# Altium schematic symbol library MiniFrogFC_lib.SchLib: 20 symbols
Pins are listed as number, name and electrical type; pins without a type are passive.

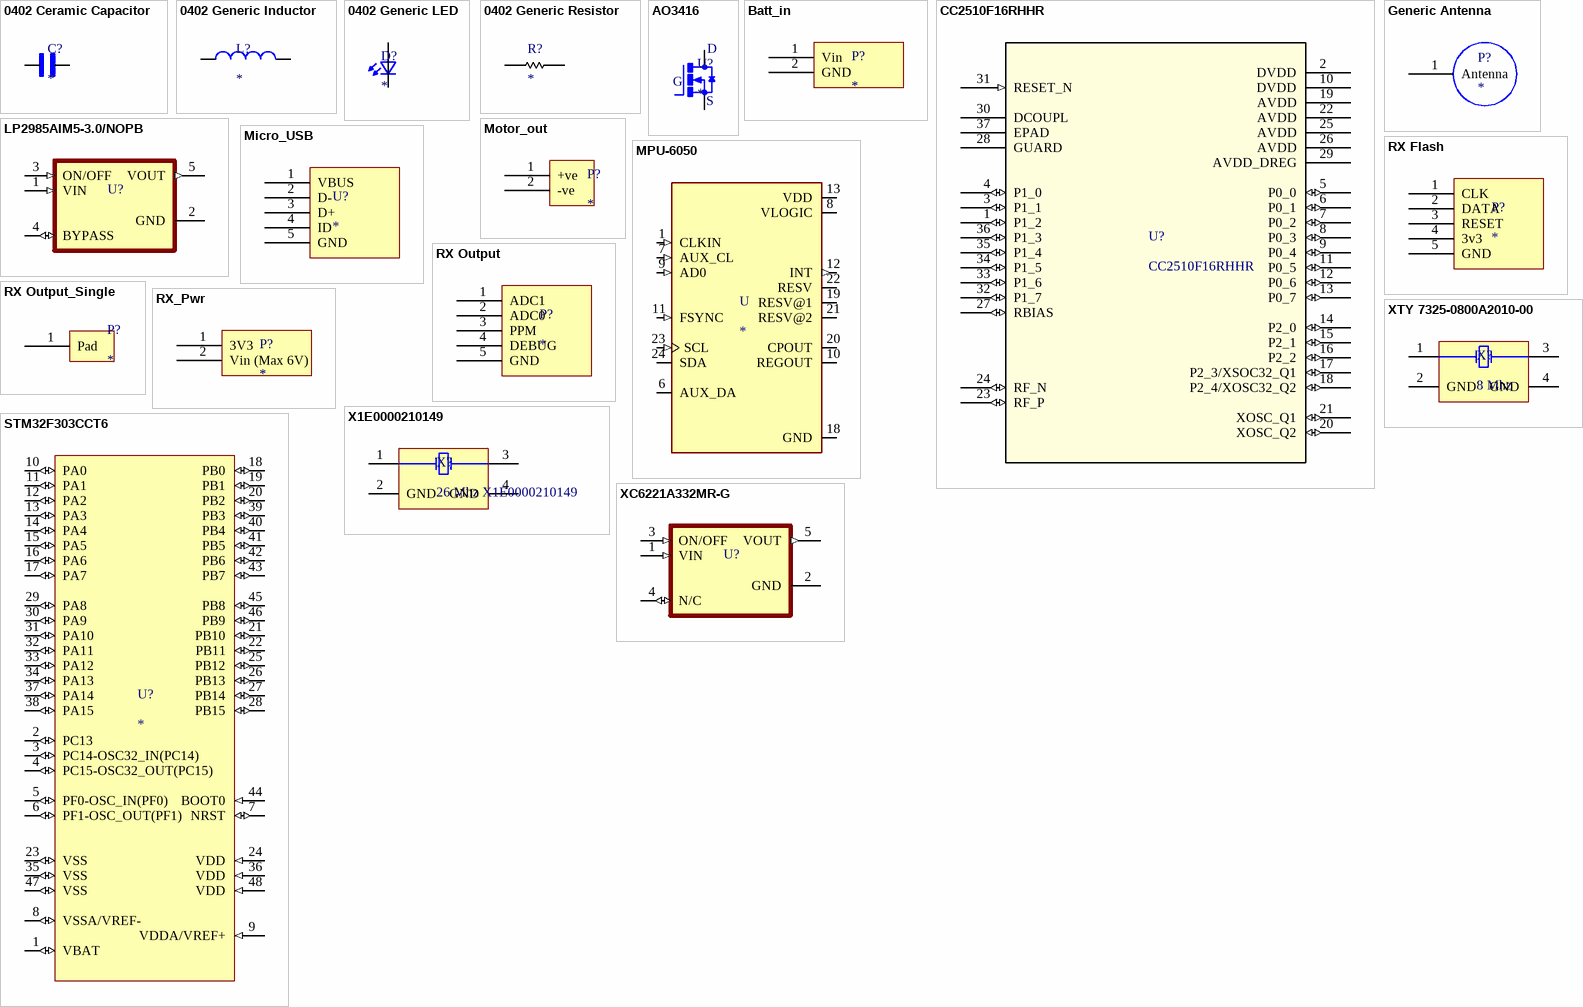
[diagram p0: symbols 0402 Ceramic Capacitor to XTY 7325-0800A2010-00]

## 0402 Ceramic Capacitor
designator C?
Generic 0402 Ceramic Capacitor; MP: AC0402FR-071ML; MF: Yageo; Package: 1005 Yageo; SnapEDA_Link: https://www.snapeda.com/parts/AC0402FR-071ML/Yageo/view-part/940461/?ref=snap; Value: *; Mouser-Purchase-URL: https://snapeda.com/shop?store=Mouser&id=940461; DigiKey-Purchase-URL: https://snapeda.com/shop?store=DigiKey&id=940461
footprint 0402 Capacitor Generic
pins: 1, 2

## 0402 Generic Inductor
designator L?
0402 Generic Inductor; Value: *
footprint 0402 Inductor Generic
pins: 1, 2

## 0402 Generic LED
designator D?
0402 Generic LED; Value: *
footprint 0402 LED Generic
pins: 1 K2, 2 A2

## 0402 Generic Resistor
designator R?
Generic 0402 Resistor
footprint 0402 Resistor Generic
pins: 1, 2

## AO3416
designator U?
N-Channel 20V 6.5A _Ta_ 1.4W _Ta_ Surface Mount SOT-23-3L; MF: Alpha &; MP: AO3416; Digi-Key_Part_Number: 785-1011-1-ND; Package: SOT-23 Alpha &amp; Omega Semiconductor; Value: *; SnapEDA_Link: https://www.snapeda.com/parts/AO3416/Alpha%20%26%20Omega%20Semiconductor%20Inc./view-part/555673/?ref=snap; Digi-Key_Purchase_URL: https://www.digikey.com/product-detail/en/alpha-omega-semiconductor-inc/AO3416/785-1011-1-ND/1855953?utm_source=snapeda&utm_medium=aggregator&utm_campaign=symbol
footprint SOT23-3
pins: 1 G, 2 S, 3 D

## Batt_in
designator P?
footprint 2 Solder Pads
pins: 1 Vin, 2 GND

## CC2510F16RHHR
designator U?
VQFN-36 RF Transceiver ICs; SourceLibrary: TI_2019-05-10; Vendor: Texas Instruments; Manufacturer_Part_Number: CC2510F16RHHR; RefDes: RefDes; Type: DEV
footprint CC2510F32RHHR
pins: 1 P1_2 (io), 2 DVDD, 3 P1_1 (io), 4 P1_0 (io), 5 P0_0 (io), 6 P0_1 (io), 7 P0_2 (io), 8 P0_3 (io), 9 P0_4 (io), 10 DVDD, 11 P0_5 (io), 12 P0_6 (io), 13 P0_7 (io), 14 P2_0 (io), 15 P2_1 (io), 16 P2_2 (io), 17 P2_3/XSOC32_Q1 (io), 18 P2_4/XOSC32_Q2 (io), 19 AVDD, 20 XOSC_Q2 (io), 21 XOSC_Q1 (io), 22 AVDD, 23 RF_P (io), 24 RF_N (io), 25 AVDD, 26 AVDD, 27 RBIAS (io), 28 GUARD, 29 AVDD_DREG, 30 DCOUPL, 31 RESET_N (in), 32 P1_7 (io), 33 P1_6 (io), 34 P1_5 (io), 35 P1_4 (io), 36 P1_3 (io), 37 EPAD

## Generic Antenna
designator P?
footprint Antenna pad
pins: 1 Antenna

## LP2985AIM5-3.0/NOPB
designator U?
Fixed 3V LDO (16V MAX) 150mA SOT-23-5 Linear Voltage Regulator
footprint SOT-23
pins: 1 VIN (in), 2 GND (power), 3 ON/OFF (in), 4 BYPASS (io), 5 VOUT (out)

## Micro_USB
designator U?
XKB Connectivity U254-051T-4BH83-F1S
footprint U254-051T-4BH83-F1S
pins: 1 VBUS, 2 D-, 3 D+, 4 ID, 5 GND

## Motor_out
designator P?
footprint MOLEX_530470210
pins: 1 +ve, 2 -ve

## MPU-6050
designator U
Accelerometer, Gyroscope, 6 Axis Sensor IÂ²C Output; MF: TDK InvenSense; Price: None; Package: VFQFN-24 TDK InvenSense; MP: MPU-6050; Value: *; Availability: Unavailable; SnapEDA_Link: https://www.snapeda.com/parts/MPU-6050/TDK%20InvenSense/view-part/4503180/?ref=snap
footprint MPU-6050 (QFN, 24-Leads, Body 4.00x4.00mm, Pitch 0.50mm, Thermal Pad 2.7x2.6mm)
pins: 1 CLKIN (in), 6 AUX_DA (io), 7 AUX_CL (in), 8 VLOGIC (power), 9 AD0 (in), 10 REGOUT, 11 FSYNC (in), 12 INT (out), 13 VDD (power), 18 GND (power), 19 RESV@1, 20 CPOUT, 21 RESV@2, 22 RESV, 23 SCL (in), 24 SDA (io)

## RX Flash
designator P?
footprint 5 Solder Pads - small
pins: 1 CLK, 2 DATA, 3 RESET, 4 3v3, 5 GND

## RX Output
designator P?
footprint 5 Solder Pads
pins: 1 ADC1, 2 ADC0, 3 PPM, 4 DEBUG, 5 GND

## RX Output_Single
designator P?
footprint 1 Solder Pad
pins: 1 Pad

## RX_Pwr
designator P?
footprint 2 Solder Pads
pins: 1 3V3, 2 Vin (Max 6V)

## STM32F303CCT6
designator U?
MCU 32-bit STM32F ARM Cortex M4 RISC 256KB Flash 2.5V/3.3V 48-Pin LQFP Tray; Manufacturer: STMicroelectronics; Manufacturer Part Number: STM32F303CCT6; Number of I/Os: 37; Interface: I2C,SPI,USB,CAN,IrDA,UART,USART,LIN,I2S; Frequency: 72MHz; RAM Size: 40KB; Number of Timers/Counters: 10; Oscillator Type: Internal; Number of Programmable I/O: 27; Data Bus Width: 32b; Watchdog Timer: Yes; Peripherals: POR,PWM,WDT,DMA; Max Supply Voltage: 3.6V; Min Supply Voltage: 2V; Number of ADC Channels: 39; Number of SPI Channels: 3; Number of I2C Channels: 2; Number of USB Channels: 1; Supplier 1: Digi-Key; RoHS: Yes; Category: Microcontrollers; Stock 1: 6096; Pricing 1: 1=6.33000, 10=5.68700, 25=5.37600, 100=4.65930, 250=4.42040, 500=3.96640, 1000=3.34516, 2500=3.17790, 5000=3.05843 (USD); Case/Package: LQFP; Number of Pins: 48; Contact Plating: Gold; Min Operating Temperature: -40°C; Max Operating Temperature: 85°C; Packaging: Tray; Max Frequency: 72MHz; Memory Type: FLASH; Memory Size: 256KB; Core Architecture: ARM; Package Quantity: 250; Length: 10mm; Height: 1.45mm; Width: 7.2mm; Radiation Hardening: No; Lead Free: Lead Free; REACH SVHC: No SVHC; ComponentLink1URL: https://datasheet.ciiva.com/14666/0900766b81171360-14666656.pdf?src-supplier=RSComponents; ComponentLink1Description: https://datasheet.ciiva.com/14666/0900766b81171360-14666656.pdf?src-supplier=RSComponents; ComponentLink2URL: https://datasheet.ciiva.com/8055/1831499-8055015.pdf?src-supplier=Element14; ComponentLink2Description: https://datasheet.ciiva.com/8055/1831499-8055015.pdf?src-supplier=Element14; Supplier Part Number 1: 497-13318-ND
footprint STM-LQFP48_N (QFP, 48-Leads, Body 7x7mm, Pitch 0.5mm, IPC Medium Density)
pins: 1 VBAT (io) "PF1-OSC_OUT(PF1)/I2C2_SCL/OSC_OUT", 2 PC13 (io) "PC13/TIM1_CH1N/WKUP2,RTC_TAMP1,RTC_TS,RTC_OUT", 3 PC14-OSC32_IN(PC14) (io) "PC14-OSC32_IN(PC14)/OSC32_IN", 4 PC15-OSC32_OUT(PC15) (io) "PC15-OSC32_OUT(PC15)/OSC32_OUT", 5 PF0-OSC_IN(PF0) (io) "PF0-OSC_IN(PF0)/TIM1_CH3N,I2C2_SDA/OSC_IN", 6 PF1-OSC_OUT(PF1) (io) "PF1-OSC_OUT(PF1)/I2C2_SCL/OSC_OUT", 7 NRST (io) "Device reset input / internal reset output (active low)", 8 VSSA/VREF- (io) "PF1-OSC_OUT(PF1)/I2C2_SCL/OSC_OUT", 9 VDDA/VREF+ (in) "Boot memory selection", 10 PA0 (io) "PA0/USART2_CTS,TIM2_CH1_ETR,TIM8_BKIN,TIM8_ETR,TSC_G1_IO1,COMP1_OUT,EVENTOUT/ADC1_IN1,COMP1_INM,RTC_TAMP2,WKUP1,COMP7_INP", 11 PA1 (io) "PA1/USART2_RTS,TIM2_CH2,TSC_G1_IO2,TIM15_CH1N,RTC_REFIN,EVENTOUT/ADC1_IN2,COMP1_INP,OPAMP1_VINP,OPAMP3_VINP", 12 PA2 (io) "PA2/USART2_TX,TIM2_CH3,TIM15_CH1,TSC_G1_IO3,COMP2_OUT,EVENTOUT/ADC1_IN3,COMP2_INM,OPAMP1_VOUT", 13 PA3 (io) "PA3/USART2_RX,TIM2_CH4,TIM15_CH2,TSC_G1_IO4,EVENTOUT/ADC1_IN4,OPAMP1_VINP,COMP2_INP,OPAMP1_VINM", 14 PA4 (io) "PA4/SPI1_NSS,SPI3_NSS,I2S3_WS,USART2_CK,TSC_G2_IO1,TIM3_CH2,EVENTOUT/ADC2_IN1,DAC1_OUT1,OPAMP4_VINP,COMP1_INM,COMP2_INM,COMP3_INM,COMP4_INM,COMP5_INM,COMP6_INM,COMP7_INM", 15 PA5 (io) "PA5/SPI1_SCK,TIM2_CH1_ETR,TSC_G2_IO2,EVENTOUT/ADC2_IN2,DAC1_OUT2,OPAMP1_VINP,OPAMP2_VINM,OPAMP3_VINP,COMP1_INM,COMP2_INM,COMP3_INM,COMP4_INM,COMP5_INM,COMP6_INM,COMP7_INM", 16 PA6 (io) "PA6/SPI1_MISO,TIM3_CH1,TIM8_BKIN,TIM1_BKIN,TIM16_CH1,COMP1_OUT,TSC_G2_IO3,EVENTOUT/ADC2_IN3,OPAMP2_VOUT", 17 PA7 (io) "PA7/SPI1_MOSI,TIM3_CH2,TIM17_CH1,TIM1_CH1N,TIM8_CH1N,TSC_G2_IO4,COMP2_OUT,EVENTOUT/ADC2_IN4,COMP2_INP,OPAMP2_VINP,OPAMP1_VINP", 18 PB0 (io) "PB0/TIM3_CH3,TIM1_CH2N,TIM8_CH2N,TSC_G3_IO2,EVENTOUT/ADC3_IN12,COMP4_INP,OPAMP3_VINP,OPAMP2_VINP", 19 PB1 (io) "PB1/TIM3_CH4,TIM1_CH3N,TIM8_CH3N,COMP4_OUT,TSC_G3_IO3,EVENTOUT/ADC3_IN1,OPAMP3_VOUT", 20 PB2 (io) "PB2/TSC_G3_IO4,EVENTOUT/ADC2_IN12,COMP4_INM,OPAMP3_VINM", 21 PB10 (io) "PB10/USART3_TX,TIM2_CH3,TSC_SYNC,EVENTOUT/COMP5_INM,OPAMP4_VINM,OPAMP3_VINM", 22 PB11 (io) "PB11/USART3_RX,TIM2_CH4,TSC_G6_IO1,EVENTOUT/COMP6_INP,OPAMP4_VINP", 23 VSS (io) "PF1-OSC_OUT(PF1)/I2C2_SCL/OSC_OUT", 24 VDD (in) "Boot memory selection", 25 PB12 (io) "PB12/SPI2_NSS,I2S2_WS,I2C2_SMBA,USART3_CK,TIM1_BKIN,TSC_G6_IO2,EVENTOUT/ADC4_IN3,COMP3_INM,OPAMP4_VOUT", 26 PB13 (io) "PB13/SPI2_SCK,I2S2_CK,USART3_CTS,TIM1_CH1N,TSC_G6_IO3,EVENTOUT/ADC3_IN5,COMP5_INP,OPAMP4_VINP,OPAMP3_VINP", 27 PB14 (io) "PB14/SPI2_MISO,I2S2ext_SD,USART3_RTS,TIM1_CH2N,TIM15_CH1,TSC_G6_IO4,EVENTOUT/COMP3_INP,ADC4_IN4,OPAMP2_VINP", 28 PB15 (io) "PB15/SPI2_MOSI,I2S2_SD,TIM1_CH3N,RTC_REFIN,TIM15_CH1N,TIM15_CH2,EVENTOUT/ADC4_IN5,COMP6_INM", 29 PA8 (io) "PA8/I2C2_SMBA,I2S2_MCK,USART1_CK,TIM1_CH1,TIM4_ETR,MCO,COMP3_OUT,EVENTOUT", 30 PA9 (io) "PA9/I2C2_SCL,I2S3_MCK,USART1_TX,TIM1_CH2,TIM2_CH3,TIM15_BKIN,TSC_G4_IO1,COMP5_OUT,EVENTOUT", 31 PA10 (io) "PA10/I2C2_SDA,USART1_RX,TIM1_CH3,TIM2_CH4,TIM8_BKIN,TIM17_BKIN,TSC_G4_IO2,COMP6_OUT,EVENTOUT", 32 PA11 (io) "PA11/USART1_CTS,USB_DM,CAN_RX,TIM1_CH1N,TIM1_CH4,TIM1_BKIN2,TIM4_CH1,COMP1_OUT,EVENTOUT", 33 PA12 (io) "PA12/USART1_RTS,USB_DP,CAN_TX,TIM1_CH2N,TIM1_ETR,TIM4_CH2,TIM16_CH1,COMP2_OUT,EVENTOUT", 34 PA13 (io) "PA13/USART3_CTS,TIM4_CH3,TIM16_CH1N,TSC_G4_IO3,IR_OUT,SWDIO-JTMS,EVENTOUT", 35 VSS (io) "PF1-OSC_OUT(PF1)/I2C2_SCL/OSC_OUT", 36 VDD (in) "Boot memory selection", 37 PA14 (io) "PA14/I2C1_SDA,USART2_TX,TIM8_CH2,TIM1_BKIN,TSC_G4_IO4,SWCLK-JTCK,EVENTOUT", 38 PA15 (io) "PA15/I2C1_SCL,SPI1_NSS,SPI3_NSS,I2S3_WS,JTDI,USART2_RX,TIM1_BKIN,TIM2_CH1_ETR,TIM8_CH1,EVENTOUT", 39 PB3 (io) "PB3/SPI3_SCK,I2S3_CK,SPI1_SCK,USART2_TX,TIM2_CH2,TIM3_ETR,TIM4_ETR,TIM8_CH1N,TSC_G5_IO1,JTDO-TRACESWO,EVENTOUT", 40 PB4 (io) "PB4/SPI3_MISO,I2S3ext_SD,SPI1_MISO,USART2_RX,TIM3_CH1,TIM16_CH1,TIM17_BKIN,TIM8_CH2N,TSC_G5_IO2,NJTRST,EVENTOUT", 41 PB5 (io) "PB5/SPI3_MOSI,SPI1_MOSI,I2S3_SD,I2C1_SMBA,USART2_CK,TIM16_BKIN,TIM3_CH2,TIM8_CH3N,TIM17_CH1,EVENTOUT", 42 PB6 (io) "PB6/I2C1_SCL,USART1_TX,TIM16_CH1N,TIM4_CH1,TIM8_CH1,TSC_G5_IO3,TIM8_ETR,TIM8_BKIN2,EVENTOUT", 43 PB7 (io) "PB7/I2C1_SDA,USART1_RX,TIM3_CH4,TIM4_CH2,TIM17_CH1N,TIM8_BKIN,TSC_G5_IO4,EVENTOUT", 44 BOOT0 (in) "Boot memory selection", 45 PB8 (io) "PB8/I2C1_SCL,CAN_RX,TIM16_CH1,TIM4_CH3,TIM8_CH2,TIM1_BKIN,TSC_SYNC,COMP1_OUT,EVENTOUT", 46 PB9 (io) "PB9/I2C1_SDA,CAN_TX,TIM17_CH1,TIM4_CH4,TIM8_CH3,IR_OUT,COMP2_OUT,EVENTOUT", 47 VSS (io) "PF1-OSC_OUT(PF1)/I2C2_SCL/OSC_OUT", 48 VDD (in) "Boot memory selection"

## X1E0000210149
designator X?, comment 26 Mhz X1E0000210149
26MHz ±10ppm 12pF 40Ω TSX-3225; Manufacturer: Epson; ESR (Equivalent Series Resistance): 40R; Supplier 1: Digi-Key; RoHS: Yes; Category: Crystals; Pricing 1: 2000=0.17600 (USD); Mount: Surface Mount; Case/Package: SMD/SMT; Min Operating Temperature: -20°C; Max Operating Temperature: 75°C; Packaging: Tape and Reel; Frequency: 26MHz; Load Capacitance: 12pF; Frequency Stability: 10ppm; Frequency Tolerance: 10ppm; Length: 0.126inch; Height: 0.024inch; Width: 0.098inch; ComponentLink1URL: https://support.epson.biz/td/api/doc_check.php?dl=brief_FA-238V_en.pdf&src-supplier=Digi-Key; ComponentLink1Description: https://support.epson.biz/td/api/doc_check.php?dl=brief_FA-238V_en.pdf&src-supplier=Digi-Key
footprint TSX-3225 (SMD, 4-Leads, Body 3.2x2.5mm)
pins: 1 X1, 2 GND (power), 3 X2, 4 GND (power)

## XC6221A332MR-G
designator U?
Fixed 3.3V LDO (6V MAX) 140mV @ 100mA SOT-23-5 Linear Voltage Regulator
footprint SOT-23
pins: 1 VIN (in), 2 GND (power), 3 ON/OFF (in), 4 N/C (io), 5 VOUT (out)

## XTY 7325-0800A2010-00
designator X?, comment 8 Mhz
8MHz ±10ppm 20pF 400Ω; ComponentLink1URL: https://support.epson.biz/td/api/doc_check.php?dl=brief_FA-238V_en.pdf&src-supplier=Digi-Key; ComponentLink1Description: https://support.epson.biz/td/api/doc_check.php?dl=brief_FA-238V_en.pdf&src-supplier=Digi-Key
footprint TSX-3225 (SMD, 4-Leads, Body 3.2x2.5mm)
pins: 1 X1, 2 GND (power), 3 X2, 4 GND (power)